# Altium footprint library PCB - CONNECTOR - TENSILITY - TENSILITY 54-00177.PcbLib: 1 footprints
Each footprint in its own frame and in the unit in brackets; x right, y up, seen from the top. Pads: shape width x height; smd on the part's side, far side on the other; paste and mask are expansions set on the pad; w line width, h text height; cw(c..) or ccw(c..) is an arc to the next point about the centre after c.
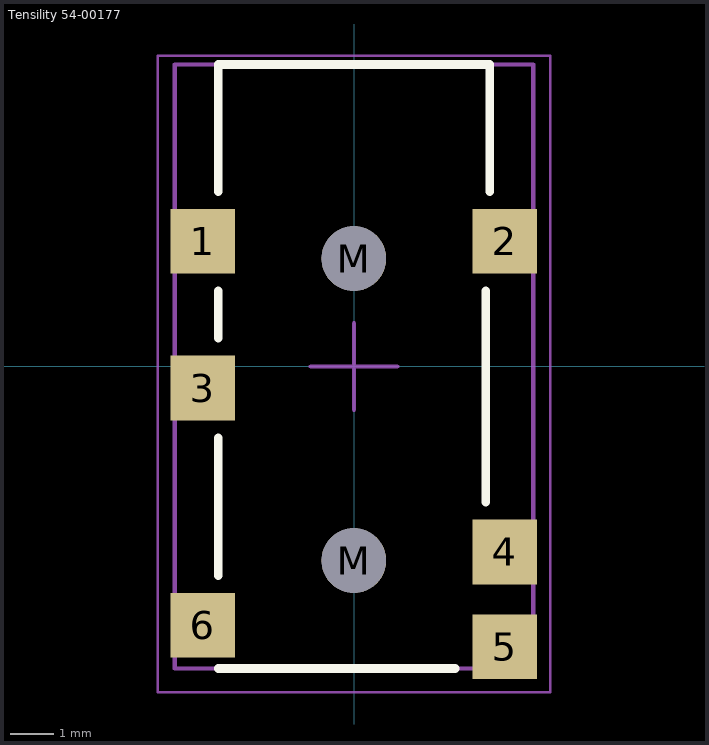
[diagram p0: the footprint, top view; thin cyan lines are the x and y axes]

## Tensility 54-00177 [mm] "3.50mm (0.141\", 1/8\", Mini Plug) - Headphone Phone Jack Stereo (4 Conductor, TRRS) Connector Solder"
height 4.6
pads (8):
  rect 1.5x1.5 smd: 1(-3.503,2.9) 2(3.497,2.9) 3(-3.503,-0.5) 4(3.497,-4.3) 5(3.497,-6.5) 6(-3.503,-6)
  round 1.5 hole 1.5: M(-0.003,-4.5) M(-0.003,2.5)
Top Overlay:
  lines w0.2: -3.15,-7 2.35,-7 ; -3.15,-4.85 -3.15,-1.65 ; -3.15,0.65 -3.15,1.75 ; -3.15,4.05 -3.15,7 3.15,7 3.15,4.05 ; 3.05,-3.15 3.05,1.75
Mechanical 13:
  circle w0.1: c-3.503,2.9 r0.541
  lines w0.1: -4.153,-7 -4.153,7 4.153,7 4.153,-7 -4.153,-7
Mechanical 15:
  lines w0.05: -4.55,-7.55 -4.55,7.2 4.55,7.2 4.55,-7.55 -4.55,-7.55
  lines w0.1: -1,0 0,0 ; 0,-1 0,0 ; 0,1 0,0 ; 1,0 0,0
3D body "Tensility - 54-00177.step": height 4.8, standoff -0.6, extent -4.153,-7 4.152,7